# EAGLE library part RTC-M41T81S (library PikiTech)
I2C Real Time Clock
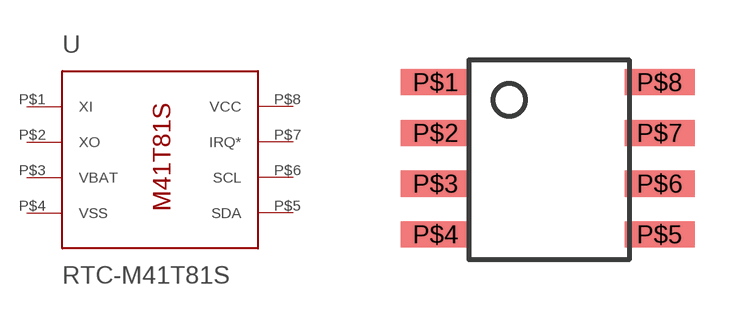
[diagram p1: symbol with the pads of 8SOIC; footprint 8SOIC]

Designator prefix -

## RTC-M41T81S  [8SOIC]
P$1  XI
P$2  XO
P$3  VBAT
P$4  VSS
P$5  SDA
P$6  SCL
P$7  IRQ*
P$8  VCC

## Footprint 8SOIC (pad centres in mm)
Standard SOIC-8 Package
smd 1.75 x 0.65: P$1 -2.54,2.54; P$2 -2.54,1.27; P$3 -2.54,0; P$4 -2.54,-1.27; P$5 3.06,-1.27; P$6 3.06,0; P$7 3.06,1.27; P$8 3.06,2.54